# Altium schematic symbol library USB_isolator.SchLib: 12 symbols
Pins are listed as number, name and electrical type; pins without a type are passive.

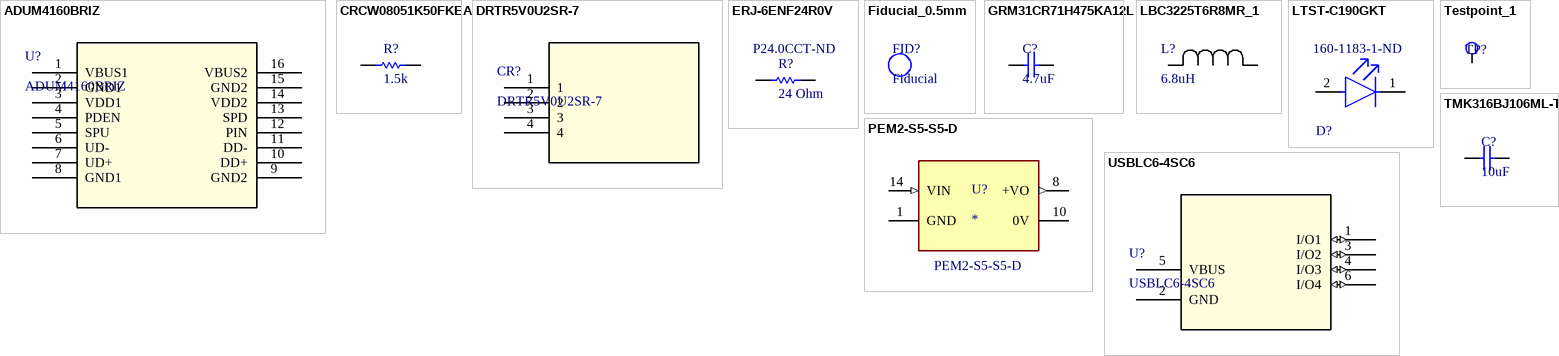
[diagram p0: symbols ADUM4160BRIZ to USBLC6-4SC6]

## ADUM4160BRIZ
designator U?
USB Digital Isolator 5000Vrms 1 Channel 12Mbps 25kV/µs CMTI 16-SOIC (0.295", 7.50mm Width); Mfr_Name: Analog Devices Inc; Copyright: Copyright (C) 2022 Ultra Librarian. All rights reserved.; Manufacturer_Part_Number: ADUM4160BRIZ; RefDes: RefDes; Type: DEV
footprint RI_16_1_ADI
pins: 1 VBUS1, 2 GND1, 3 VDD1, 4 PDEN, 5 SPU, 6 UD-, 7 UD+, 8 GND1, 9 GND2, 10 DD+, 11 DD-, 12 PIN, 13 SPD, 14 VDD2, 15 GND2, 16 VBUS2

## CRCW08051K50FKEA
designator R?, comment 1.5k
Res Thick Film 0805 1.5K Ohm 1% 1/8W ±100ppm/°C Molded SMD Paper T/R; Manufacturer: Vishay; Manufacturer Part Number: CRCW08051K50FKEA; Voltage Rating: 150V; Resistance: 1.5kR; Power Rating: 125mW; Supplier 1: RSComponents; RoHS: Yes; Category: Chip SMD Resistors; Stock 1: 1; Pricing 1: 50=0.09800, 500=0.09100, 1000=0.08200, 2000=0.07300, 4000=0.06500 (USD); Case/Package: 0805; Case Code (Metric): 2012; Case Code (Imperial): 0805; Contact Plating: Tin; Weight: 0.000194oz; Size Code: 0805; Min Operating Temperature: -55°C; Max Operating Temperature: 155°C; Package Quantity: 10; Series: CRCW; Packaging: Tape and Reel; Termination: SMD/SMT; Temperature Coefficient: 100ppm/°C; Voltage Rating (DC): 150V; Construction: Rectangular; Tolerance: 1%; Resistor Type: Thick Film; Number of Terminations: 2; Max Power Dissipation: 125mW; Features: Automotive AEC-Q200; Resistance Tolerance: 1%; Technology: THICK FILM; Length: 2mm; Width: 0.049inch; Height: 0.45mm; Depth: 1.25mm; Radiation Hardening: No; RoHS Compliant: Yes; REACH SVHC: Unknown; Lead Free: Lead Free; Military Standard: Not; ComponentLink1URL: https://datasheet.ciiva.com/11809/0900766b80d98b26-11809039.pdf?src-supplier=RSComponents; ComponentLink1Description: https://datasheet.ciiva.com/11809/0900766b80d98b26-11809039.pdf?src-supplier=RSComponents; ComponentLink2URL: https://datasheet.ciiva.com/2467/dcrcwe3-2467186.pdf?src-supplier=Digi-Key; ComponentLink2Description: https://datasheet.ciiva.com/2467/dcrcwe3-2467186.pdf?src-supplier=Digi-Key; ComponentLink3URL: https://datasheet.ciiva.com/3258/dcrcwe3-3258255.pdf?src-supplier=Avnet; ComponentLink3Description: https://datasheet.ciiva.com/3258/dcrcwe3-3258255.pdf?src-supplier=Avnet; ComponentLink4URL: https://datasheet.ciiva.com/2467/dcrcwe3-2467185.pdf?src-supplier=Digi-Key; ComponentLink4Description: https://datasheet.ciiva.com/2467/dcrcwe3-2467185.pdf?src-supplier=Digi-Key; ComponentLink5URL: https://datasheet.ciiva.com/2467/dcrcwe3-2467187.pdf?src-supplier=Digi-Key; ComponentLink5Description: https://datasheet.ciiva.com/2467/dcrcwe3-2467187.pdf?src-supplier=Digi-Key; ComponentLink6URL: https://datasheet.ciiva.com/16291/dcrcwe3-16291272.pdf?src-supplier=Future+Electronics; ComponentLink6Description: https://datasheet.ciiva.com/16291/dcrcwe3-16291272.pdf?src-supplier=Future+Electronics; ComponentLink7URL: https://datasheet.ciiva.com/7777/1697337-7777375.pdf?src-supplier=Element14; ComponentLink7Description: https://datasheet.ciiva.com/7777/1697337-7777375.pdf?src-supplier=Element14; ComponentLink8URL: https://datasheet.ciiva.com/7777/1720486-7777609.pdf?src-supplier=Element14; ComponentLink8Description: https://datasheet.ciiva.com/7777/1720486-7777609.pdf?src-supplier=Element14; ComponentLink9URL: https://datasheet.ciiva.com/16778/70201119-16778857.pdf?src-supplier=Allied+Electronics; ComponentLink9Description: https://datasheet.ciiva.com/16778/70201119-16778857.pdf?src-supplier=Allied+Electronics; ComponentLink10URL: https://datasheet.ciiva.com/26312/fld-crcw-e3-data-en-26312926.pdf?src-supplier=Distrelec; ComponentLink10Description: https://datasheet.ciiva.com/26312/fld-crcw-e3-data-en-26312926.pdf?src-supplier=Distrelec; Supplier Part Number 1: 6791014; Supplier 2: Digi-Key; Pricing 2: 1=0.10000, 10=0.06700, 100=0.02710, 1000=0.01219, 2500=0.01058 (USD); Supplier Part Number 2: 541-1.50KCDKR-ND
footprint 0805R (0805 Resistor)
pins: 1, 2

## DRTR5V0U2SR-7
designator CR?
Dual Channel 5.5 V 0.4 W 1 pF Uni-Dirirectional TVS Diode Array - SOT-143; Mfr_Name: Diodes Inc; Manufacturer: Diodes; Type: DEV; Direction: Unidirectional; Number of Bidirectional Channels: 2; Reverse Standoff Voltage: 5.5V; Min Breakdown Voltage: 6V; Power Line Protection: Yes; Peak Pulse Power: 400mW; Test Current: 1mA; Max Reverse Leakage Current: 100nA; Peak Pulse Current: 5A; Copyright: Copyright (C) 2022 Ultra Librarian. All rights reserved.; Manufacturer_Part_Number: DRTR5V0U2SR-7; Digi-Key_Part_Number_1: DRTR5V0U2SR-7DITR-ND; Digi-Key_Part_Number_2: DRTR5V0U2SR-7DICT-ND; Digi-Key_Part_Number_3: DRTR5V0U2SR-7DIDKR-ND; RefDes: RefDes; Supplier 1: Digi-Key; Manufacturer Part Number: DRTR5V0U2SR-7; RoHS: Yes; Category: TVS Diodes; Stock 1: 129137; Pricing 1: 1=0.40000, 10=0.32300, 100=0.22000, 500=0.16500, 1000=0.12375 (USD); Mount: Surface Mount; Case/Package: SOT-143; Number of Pins: 4; Min Operating Temperature: -65°C; Max Operating Temperature: 150°C; Packaging: Tape and Reel; ESD Protection: Yes; Element Configuration: Dual; Length: 3mm; Width: 1.4mm; Height: 1mm; Radiation Hardening: No; RoHS Compliant: Yes; ComponentLink1URL: https://datasheet.ciiva.com/29588/drtr5v0u2sr-29588600.pdf?src-supplier=Digi-Key; ComponentLink1Description: https://datasheet.ciiva.com/29588/drtr5v0u2sr-29588600.pdf?src-supplier=Digi-Key; ComponentLink2URL: https://datasheet.ciiva.com/48480/drtr5v0u2sr-48480031.pdf?src-supplier=Avnet; ComponentLink2Description: https://datasheet.ciiva.com/48480/drtr5v0u2sr-48480031.pdf?src-supplier=Avnet; ComponentLink3URL: https://datasheet.ciiva.com/29588/drtr5v0u2sr-29588602.pdf?src-supplier=Digi-Key; ComponentLink3Description: https://datasheet.ciiva.com/29588/drtr5v0u2sr-29588602.pdf?src-supplier=Digi-Key; Supplier Part Number 1: DRTR5V0U2SR-7DICT-ND
footprint SOT143_DIO
pins: 1, 2, 3, 4

## ERJ-6ENF24R0V
designator R?, comment 24 Ohm  Supplier Part Number 1: P24.0CCT-ND
Res Thick Film 0805 24 Ohm 1% 0.125W ±100ppm/°C Molded SMD Punched Carrier T/R; Manufacturer: Panasonic; Manufacturer Part Number: ERJ-6ENF24R0V; Voltage Rating: 150V; Resistance: 24R; Power Rating: 125mW; Supplier 1: Digi-Key; RoHS: Yes; Category: Chip SMD Resistors; Stock 1: 159895; Pricing 1: 1=0.10000, 10=0.08900, 100=0.03440, 1000=0.01512, 2500=0.01306 (USD); Mount: Surface Mount; Case/Package: 0805; Case Code (Imperial): 0805; Case Code (Metric): 2012; Contact Plating: Tin; Min Operating Temperature: -55°C; Max Operating Temperature: 155°C; Packaging: Tape and Reel; Tolerance: 1%; Resistor Type: Thick Film; Number of Terminations: 2; Temperature Coefficient: 100ppm/°C; Max Power Dissipation: 125mW; Series: ERJ; Resistance Tolerance: 1%; Package Quantity: 1; Voltage Rating (DC): 150V; Construction: Rectangular; Features: Automotive AEC-Q200; Technology: THICK FILM; Length: 2mm; Width: 1.2mm; Height: 0.6mm; Depth: 1.25mm; Height - Seated (Max): 0.028inch; Radiation Hardening: No; REACH SVHC: Yes; RoHS Compliant: Yes; Military Standard: Not; ComponentLink1URL: https://datasheet.ciiva.com/11821/0900766b80f80784-11821589.pdf?src-supplier=RSComponents; ComponentLink1Description: https://datasheet.ciiva.com/11821/0900766b80f80784-11821589.pdf?src-supplier=RSComponents; ComponentLink2URL: https://datasheet.ciiva.com/9191/aoa0000ce2-9191581.pdf?src-supplier=Avnet; ComponentLink2Description: https://datasheet.ciiva.com/9191/aoa0000ce2-9191581.pdf?src-supplier=Avnet; ComponentLink3URL: https://datasheet.ciiva.com/22668/1678782-22668015.pdf?src-supplier=Element14; ComponentLink3Description: https://datasheet.ciiva.com/22668/1678782-22668015.pdf?src-supplier=Element14; ComponentLink4URL: https://datasheet.ciiva.com/22739/1678782-22739742.pdf?src-supplier=Element14; ComponentLink4Description: https://datasheet.ciiva.com/22739/1678782-22739742.pdf?src-supplier=Element14; ComponentLink5URL: https://datasheet.ciiva.com/46419/1678782-46419896.pdf?src-supplier=Element14; ComponentLink5Description: https://datasheet.ciiva.com/46419/1678782-46419896.pdf?src-supplier=Element14
footprint 0805R (0805 Resistor)
pins: 1, 2

## Fiducial_0.5mm
designator FID?, comment Fiducial  (no BOM)
footprint FID_0.5mm (Fiducial)

## GRM31CR71H475KA12L
designator C?, comment 4.7uF
CAP CER 4.7UF 50V X7R 1206; Manufacturer: Murata; Manufacturer Part Number: GRM31CR71H475KA12L; Material: Ceramic; Tolerance: 10%; Supplier 1: Digi-Key; RoHS: Yes; Category: Ceramic Capacitors; Stock 1: 866926; Pricing 1: 1=0.44000, 10=0.30200, 50=0.21180, 100=0.18150, 500=0.13612, 1000=0.11495 (USD); Mount: Surface Mount; Case/Package: 1206; Case Code (Metric): 3216; Case Code (Imperial): 1206; Min Operating Temperature: -55°C; Max Operating Temperature: 125°C; Capacitance: 4.7uF; Packaging: Tape and Reel; Voltage Rating (DC): 50V; Package Quantity: 2000; Voltage Rating: 50V; Dielectric: X7R; Voltage: 50V; Termination: SMD/SMT; Series: GRM; Construction: Flat; Length: 3.2mm; Width: 0.063inch; Height: 1.6mm; Depth: 1.6mm; Thickness: 0.071inch; Radiation Hardening: No; REACH SVHC: No SVHC; Lead Free: Lead Free; RoHS Compliant: Yes; ComponentLink1URL: https://datasheet.ciiva.com/6072/415379-6072784.pdf?src-supplier=Farnell; ComponentLink1Description: https://datasheet.ciiva.com/6072/415379-6072784.pdf?src-supplier=Farnell; ComponentLink2URL: https://datasheet.ciiva.com/3777/2267grm31cr71h475ka1223-3777241.pdf?src-supplier=Arrow+Electronics; ComponentLink2Description: https://datasheet.ciiva.com/3777/2267grm31cr71h475ka1223-3777241.pdf?src-supplier=Arrow+Electronics; ComponentLink3URL: https://datasheet.ciiva.com/29202/450972-da-01-de-vs-chip-kond-1206-4-7-uf-10pr-50-0v-x7r-29202576.pdf?src-supplier=Conrad; ComponentLink3Description: https://datasheet.ciiva.com/29202/450972-da-01-de-vs-chip-kond-1206-4-7-uf-10pr-50-0v-x7r-29202576.pdf?src-supplier=Conrad; ComponentLink4URL: https://datasheet.ciiva.com/29202/451279-da-01-de-vs-kondens-grm31-cr71h-475ka12l-29202365.pdf?src-supplier=Conrad; ComponentLink4Description: https://datasheet.ciiva.com/29202/451279-da-01-de-vs-kondens-grm31-cr71h-475ka12l-29202365.pdf?src-supplier=Conrad; ComponentLink5URL: https://datasheet.ciiva.com/7937/415310-7937749.pdf?src-supplier=Element14; ComponentLink5Description: https://datasheet.ciiva.com/7937/415310-7937749.pdf?src-supplier=Element14; ComponentLink6URL: https://datasheet.ciiva.com/6270/partnumbering-e-01-6270218.pdf?src-supplier=Digi-Key; ComponentLink6Description: https://datasheet.ciiva.com/6270/partnumbering-e-01-6270218.pdf?src-supplier=Digi-Key; ComponentLink7URL: https://datasheet.ciiva.com/6270/partnumbering-e-01-6270217.pdf?src-supplier=Digi-Key; ComponentLink7Description: https://datasheet.ciiva.com/6270/partnumbering-e-01-6270217.pdf?src-supplier=Digi-Key; ComponentLink8URL: https://datasheet.ciiva.com/6270/partnumbering-e-01-6270219.pdf?src-supplier=Digi-Key; ComponentLink8Description: https://datasheet.ciiva.com/6270/partnumbering-e-01-6270219.pdf?src-supplier=Digi-Key; Supplier Part Number 1: 490-6521-1-ND
footprint 1206C (Chip 1206C Capacitor, Body 3.2x1.6mm, Height 1.8mm)
pins: 1, 2

## LBC3225T6R8MR_1
designator L?, comment 6.8uH
Inductor General Purpose Chip Wirewound 6.8uH 20% 100KHz Ferrite 0.62A 0.156Ohm DCR 1210 T/R; Mfr_Name: Taiyo Yuden; Manufacturer_Part_Number: LBC3225T6R8MR; Type: DEV; Self Resonant Frequency: 50MHz; Current Rating: 620mA; Shielding: Unshielded; DC Resistance (DCR): 120mR; Copyright: Copyright (C) 2022 Ultra Librarian. All rights reserved.; RefDes: RefDes; Supplier 1: Digi-Key; Manufacturer: Taiyo Yuden; Manufacturer Part Number: LBC3225T6R8MR; RoHS: Yes; Category: Fixed Inductors; Stock 1: 24416; Pricing 1: 1=0.20000, 10=0.17800, 25=0.15840, 50=0.13460, 100=0.11880, 250=0.10888, 500=0.09900 (USD); Mount: Surface Mount; Case/Package: 1210; Number of Pins: 2; Core Material: Ferrite; Case Code (Metric): 3225; Case Code (Imperial): 1210; Min Operating Temperature: -40°C; Max Operating Temperature: 105°C; Packaging: Tape and Reel; Package Quantity: 1000; Inductance: 6.8uH; Test Frequency: 100kHz; Series: LB; Tolerance: 20%; Max DC Current: 620mA; Termination: SMD/SMT; Resistor Type: Wirewound; Inductance Tolerance: 20%; Length: 0.126inch; Width: 2.5mm; Height: 2.5mm; Height - Seated (Max): 0.106inch; Depth: 2.7mm; Lead Pitch: 2.7mm; Radiation Hardening: No; REACH SVHC: Unknown; Lead Free: Lead Free; Halogen Free: Halogen Free; ComponentLink1URL: https://datasheet.ciiva.com/8503/lbc3225t6r8mr-ss-8503074.pdf?src-supplier=Avnet; ComponentLink1Description: https://datasheet.ciiva.com/8503/lbc3225t6r8mr-ss-8503074.pdf?src-supplier=Avnet; Supplier Part Number 1: 587-2433-1-ND
footprint IND_TAIYO_LBC3225_TAY
pins: 1, 2

## LTST-C190GKT
designator D?, comment Supplier Part Number 1: 160-1183-1-ND  (hidden comment: LED)
LED 0603(H=0.9mm) λD=569nm VR=5V VF=2.1V~2.6V IF=20mA PD=100mW; Manufacturer: Vishay Lite-On; Manufacturer Part Number: LTST-C190GKT; Color: Green; Lens Color: Colorless; Luminous Intensity: 6mcd; Forward Voltage: 2.1V; Viewing Angle: 130°; Lens Style: Clear,Diffused,Colorless,Rectangular; Forward Current: 30mA; Dominant Wavelength: 569nm; Test Current: 10mA; Number of Elements: 1; Power Dissipation: 100mW; Wavelength: 565nm; Reverse Voltage: 5V; Lens Transparency: Clear; Voltage: 2V; Supplier 1: Digi-Key; RoHS: Yes; Category: LEDs; Stock 1: 553647; Pricing 1: 1=0.24000, 10=0.13200, 100=0.06110, 500=0.05640, 1000=0.04418, 2000=0.04324 (USD); Mount: Surface Mount; Case/Package: 0603; Number of Pins: 2; Case Code (Metric): 1608; Case Code (Imperial): 0603; Min Operating Temperature: -55°C; Max Operating Temperature: 85°C; Package Quantity: 1; Packaging: Tape and Reel; Illumination Color: Green; Number of LEDs: 1; Power Rating: 100mW; Length: 1.6mm; Width: 0.8mm; Height: 0.8mm; Depth: 0.8mm; Radiation Hardening: No; RoHS Compliant: Yes; Lead Free: Lead Free; ComponentLink1URL: https://datasheet.ciiva.com/2109/ltst-c190gkt-2109985.pdf?src-supplier=Digi-Key; ComponentLink1Description: https://datasheet.ciiva.com/2109/ltst-c190gkt-2109985.pdf?src-supplier=Digi-Key; ComponentLink2URL: https://datasheet.ciiva.com/11775/0900766b80dc02a6-11775616.pdf?src-supplier=RSComponents; ComponentLink2Description: https://datasheet.ciiva.com/11775/0900766b80dc02a6-11775616.pdf?src-supplier=RSComponents; ComponentLink3URL: https://datasheet.ciiva.com/12403/lite-on-ltst-c190gkt-187204-12403884.pdf?src-supplier=Mouser; ComponentLink3Description: https://datasheet.ciiva.com/12403/lite-on-ltst-c190gkt-187204-12403884.pdf?src-supplier=Mouser; ComponentLink4URL: https://datasheet.ciiva.com/16392/lite-on20ltst-c190gkt-16392818.pdf?src-supplier=Future+Electronics; ComponentLink4Description: https://datasheet.ciiva.com/16392/lite-on20ltst-c190gkt-16392818.pdf?src-supplier=Future+Electronics; ComponentLink5URL: https://datasheet.ciiva.com/2109/ltst-c190gkt-2109986.pdf?src-supplier=Digi-Key; ComponentLink5Description: https://datasheet.ciiva.com/2109/ltst-c190gkt-2109986.pdf?src-supplier=Digi-Key; ComponentLink6URL: https://datasheet.ciiva.com/2109/ltst-c190gkt-2109987.pdf?src-supplier=Digi-Key; ComponentLink6Description: https://datasheet.ciiva.com/2109/ltst-c190gkt-2109987.pdf?src-supplier=Digi-Key
footprint Lite-On_0_MFG
pins: 1 C, 2 A

## PEM2-S5-S5-D
designator U?  MP: PEM2-S5-S5-D
2 W, 5 V, 400 mA, Single Unregulated Output, Isolated Dc-Dc converter; Manufacturer: CUI; Number of Outputs: 1; Efficiency: 85%; Min Input Voltage: 4.5V; Max Input Voltage: 5.5V; Voltage - Output 1: 5V; Max Output Current: 400mA; Isolation Voltage: 3kV; Max Power Dissipation: 2W; Package: None; Price: None; Value: *; Availability: Unavailable; Supplier 1: Digi-Key; Manufacturer Part Number: PEM2-S5-S5-D; RoHS: Yes; Category: Voltage Regulators - Switching; Stock 1: 242; Pricing 1: 1=8.33000, 5=8.21200, 10=8.09200, 25=7.85400, 50=7.61600, 100=7.37800, 250=7.14000, 450=6.66400 (USD); Mount: Through Hole; Case/Package: DIP; Weight: 0.084658oz; Min Operating Temperature: -40°C; Max Operating Temperature: 105°C; Package Quantity: 25; Packaging: Bulk; Output Power: 2W; Current - Output 1: 400mA; Features: SCP; Length: 20mm; Width: 10mm; Height: 0.32inch; Lead Free: Lead Free; ComponentLink1URL: http://www.mouser.com/ds/2/670/pem2-d-1079633.pdf?src-supplier=Mouser; ComponentLink1Description: http://www.mouser.com/ds/2/670/pem2-d-1079633.pdf?src-supplier=Mouser; ComponentLink2URL: https://www.cui.com/product/resource/digikeypdf/pem2-d.pdf?src-supplier=Digi-Key; ComponentLink2Description: https://www.cui.com/product/resource/digikeypdf/pem2-d.pdf?src-supplier=Digi-Key; ComponentLink3URL: http://www.cui.com/product/resource/digikeypdf/pem2-d.pdf?src-supplier=Digi-Key; ComponentLink3Description: http://www.cui.com/product/resource/digikeypdf/pem2-d.pdf?src-supplier=Digi-Key; Supplier Part Number 1: 102-4560-ND; RoHS Compliant: Yes
footprint CONV_PEM2-S5-S5-D
pins: 1 GND (power), 8 +VO (out), 10 0V (power), 14 VIN (in)

## Testpoint_1
designator TP?  (value not drawn)  (no BOM)
Testpoint
footprint Testpoint_1
pins: 1

## TMK316BJ106ML-T
designator C?, comment 10uF
Capacitor 10uF ±20% 25V 1206; Manufacturer: Taiyo Yuden; Manufacturer Part Number: TMK316BJ106ML-T; Tolerance: 10%; Dielectric: X5R; Supplier 1: Digi-Key; RoHS: Yes; Category: Ceramic Capacitors; Stock 1: 411339; Pricing 1: 1=0.28000, 10=0.18900, 50=0.12600, 100=0.10710, 500=0.07562, 1000=0.06617 (USD); Mount: Surface Mount; Case/Package: 1206; Number of Pins: 2; Case Code (Imperial): 1206; Case Code (Metric): 3216; Contact Plating: Nickel; Min Operating Temperature: -55°C; Max Operating Temperature: 85°C; Capacitance: 10uF; Packaging: Tape and Reel; Voltage Rating: 25V; Package Quantity: 1; Voltage Rating (DC): 25V; Termination: SMD/SMT; Voltage: 25V; Series: M; Construction: Flat; Resistor Type: Ceramic; Length: 3.2mm; Width: 1.6mm; Height: 1.6mm; Depth: 1.6mm; Thickness: 0.071inch; Radiation Hardening: No; REACH SVHC: Unknown; RoHS Compliant: Yes; Lead Free: Lead Free; Halogen Free: Halogen Free; ComponentLink1URL: https://datasheet.ciiva.com/137/tmk316bj106ml-t-ss-137881.pdf?src-supplier=Digi-Key; ComponentLink1Description: https://datasheet.ciiva.com/137/tmk316bj106ml-t-ss-137881.pdf?src-supplier=Digi-Key; ComponentLink2URL: https://datasheet.ciiva.com/11601/tmk316bj106ml-t-ss-11601883.pdf?src-supplier=Avnet; ComponentLink2Description: https://datasheet.ciiva.com/11601/tmk316bj106ml-t-ss-11601883.pdf?src-supplier=Avnet; ComponentLink3URL: https://datasheet.ciiva.com/15922/1117tmk316bj106ml-t-15922416.pdf?src-supplier=Onlinecomponents.com; ComponentLink3Description: https://datasheet.ciiva.com/15922/1117tmk316bj106ml-t-15922416.pdf?src-supplier=Onlinecomponents.com; ComponentLink4URL: https://datasheet.ciiva.com/30087/617tmk316bj106ml-t-30087946.pdf?src-supplier=Onlinecomponents.com; ComponentLink4Description: https://datasheet.ciiva.com/30087/617tmk316bj106ml-t-30087946.pdf?src-supplier=Onlinecomponents.com; ComponentLink5URL: https://datasheet.ciiva.com/7975/1481447-7975845.pdf?src-supplier=Element14; ComponentLink5Description: https://datasheet.ciiva.com/7975/1481447-7975845.pdf?src-supplier=Element14; ComponentLink6URL: https://datasheet.ciiva.com/7975/1481447-7975597.pdf?src-supplier=Element14; ComponentLink6Description: https://datasheet.ciiva.com/7975/1481447-7975597.pdf?src-supplier=Element14; ComponentLink7URL: https://datasheet.ciiva.com/28645/746258-28645286.pdf?src-supplier=Element14; ComponentLink7Description: https://datasheet.ciiva.com/28645/746258-28645286.pdf?src-supplier=Element14
footprint 1206C (Chip 1206C Capacitor, Body 3.2x1.6mm, Height 1.8mm)
pins: 1, 2

## USBLC6-4SC6
designator U?
TVS DIODE 5.25VWM 17VC SOT23-6; Mfr_Name: STMicroelectronics; Capacitance: 4pF; Direction: Unidirectional; Number of Bidirectional Channels: 4; Reverse Standoff Voltage: 5V; Min Breakdown Voltage: 6V; Clamping Voltage: 17V; Power Line Protection: Yes; Leakage Current: 150nA; Peak Pulse Current: 5A; Number of Elements: 1; Operating Supply Voltage: 860mV; Polarity: Unidirectional,Bidirectional; Test Current: 1mA; Max Breakdown Voltage: 10V; Max Reverse Leakage Current: 2uA; Copyright: Copyright (C) 2022 Ultra Librarian. All rights reserved.; Manufacturer_Part_Number: USBLC6-4SC6; Digi-Key_Part_Number_1: 497-4492-1-ND; Digi-Key_Part_Number_2: 497-4492-2-ND; Digi-Key_Part_Number_3: 497-4492-6-ND; RefDes: RefDes; Type: DEV; Supplier 1: Digi-Key; Manufacturer: STMicroelectronics; Manufacturer Part Number: USBLC6-4SC6; RoHS: Yes; Category: TVS Diodes; Stock 1: 56530; Pricing 1: 1=0.63000, 10=0.55300, 100=0.42410, 500=0.33528, 1000=0.26822 (USD); Mount: Surface Mount; Case/Package: SOT-23; Number of Pins: 6; Weight: 0.01lb; Contact Plating: Tin,Matte; Min Operating Temperature: -40°C; Max Operating Temperature: 125°C; Package Quantity: 3000; Packaging: Tape and Reel; Series: USB; Reverse Breakdown Voltage: 6V; Number of Channels: 4; Breakdown Voltage: 6V; Termination: SMD/SMT; Working Voltage: 5V; ESD Protection: Yes; Voltage Rating (DC): 5V; Clamping Voltage-Max: 17V; Length: 3mm; Width: 1.75mm; Height: 1.3mm; Depth: 1.75mm; Radiation Hardening: No; Lead Free: Lead Free; RoHS Compliant: Yes; REACH SVHC: No SVHC; ComponentLink1URL: https://datasheet.ciiva.com/14186/usblc6-4-st-eng-tds-14186570.pdf?src-supplier=Distrelec; ComponentLink1Description: https://datasheet.ciiva.com/14186/usblc6-4-st-eng-tds-14186570.pdf?src-supplier=Distrelec; ComponentLink2URL: https://datasheet.ciiva.com/27052/1493951-27052291.pdf?src-supplier=Jameco; ComponentLink2Description: https://datasheet.ciiva.com/27052/1493951-27052291.pdf?src-supplier=Jameco; ComponentLink3URL: https://datasheet.ciiva.com/1220/48344-1220005.pdf?src-supplier=Newark; ComponentLink3Description: https://datasheet.ciiva.com/1220/48344-1220005.pdf?src-supplier=Newark; ComponentLink4URL: https://datasheet.ciiva.com/4507/cd00047494-112581-4507757.pdf?src-supplier=Mouser; ComponentLink4Description: https://datasheet.ciiva.com/4507/cd00047494-112581-4507757.pdf?src-supplier=Mouser; ComponentLink5URL: https://datasheet.ciiva.com/16206/cd00047494-16206119.pdf?src-supplier=Future+Electronics; ComponentLink5Description: https://datasheet.ciiva.com/16206/cd00047494-16206119.pdf?src-supplier=Future+Electronics; ComponentLink6URL: https://datasheet.ciiva.com/15143/getdatasheetpartid-88767-15143364.pdf?src-supplier=Verical; ComponentLink6Description: https://datasheet.ciiva.com/15143/getdatasheetpartid-88767-15143364.pdf?src-supplier=Verical; ComponentLink7URL: https://datasheet.ciiva.com/22685/1498406-22685833.pdf?src-supplier=Element14; ComponentLink7Description: https://datasheet.ciiva.com/22685/1498406-22685833.pdf?src-supplier=Element14; ComponentLink8URL: https://datasheet.ciiva.com/22692/1498406-22692454.pdf?src-supplier=Element14; ComponentLink8Description: https://datasheet.ciiva.com/22692/1498406-22692454.pdf?src-supplier=Element14; Supplier Part Number 1: 497-4492-1-ND
footprint SOT23-6L_STM
pins: 1 I/O1 (io), 2 GND (power), 3 I/O2 (io), 4 I/O3 (io), 5 VBUS (power), 6 I/O4 (io)